# EAGLE library part EZA* (library rele)
RELAY
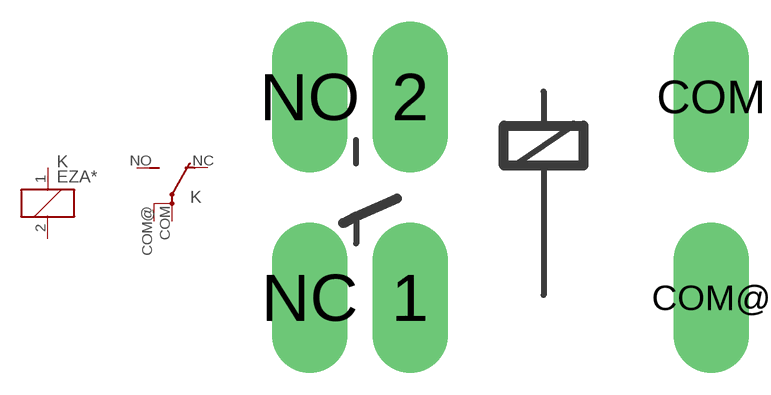
[diagram p26: symbol with the pads of EZ; footprint EZ]

Designator prefix K; gates G$1=K G$2=U1

## EZA05, EZA12  [EZ]
1  G$1:1  pas
2  G$1:2  pas
COM  G$2:P  pas
COM@  G$2:P  pas
NC  G$2:O  pas
NO  G$2:S  pas

## Footprint EZ (pad centres in mm)
RELAY
drill 1.27 long: 1 -2.54,-2.54; 2 -2.54,2.54; COM 5.08,2.54; COM@ 5.08,-2.54; NC -5.08,-2.54; NO -5.08,2.54